# Altium schematic symbol library SCH - MCU - STM32 - ST MICROELECTRONICS STM32H7B0IBTX LQFP176.SchLib: 1 symbol
Pins are listed as number, name and electrical type; pins without a type are passive.

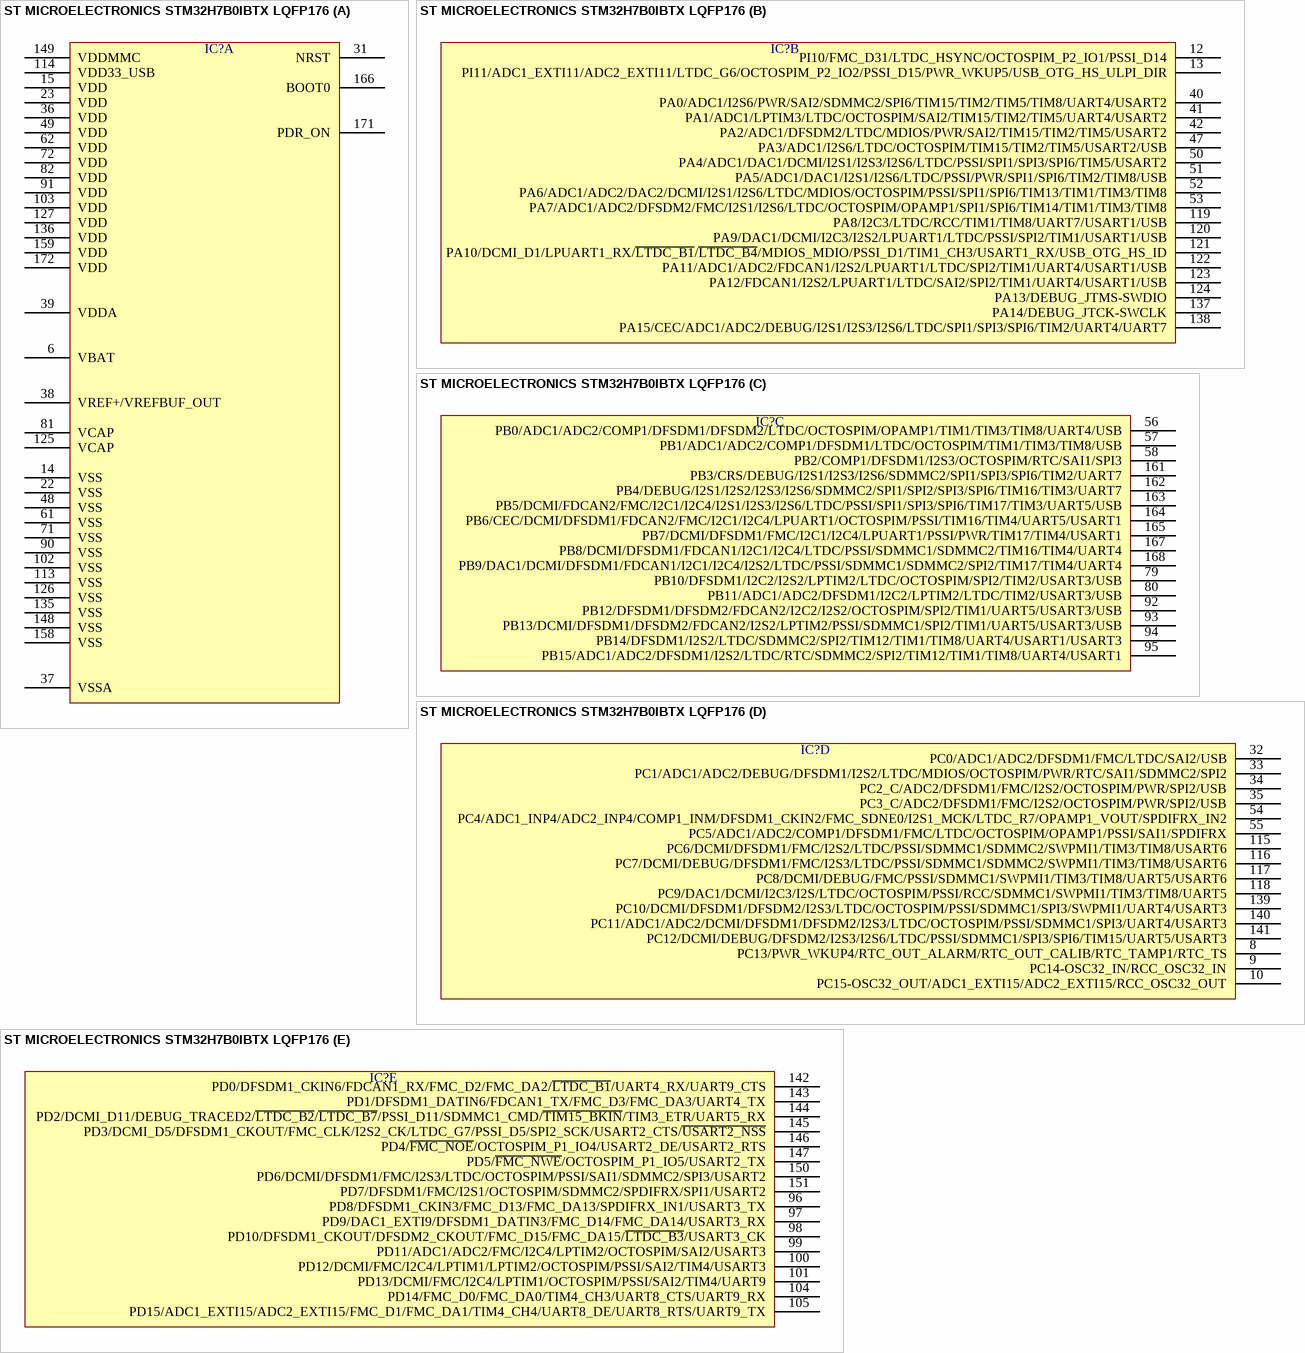
[diagram p0: symbol ST MICROELECTRONICS STM32H7B0IBTX LQFP176]

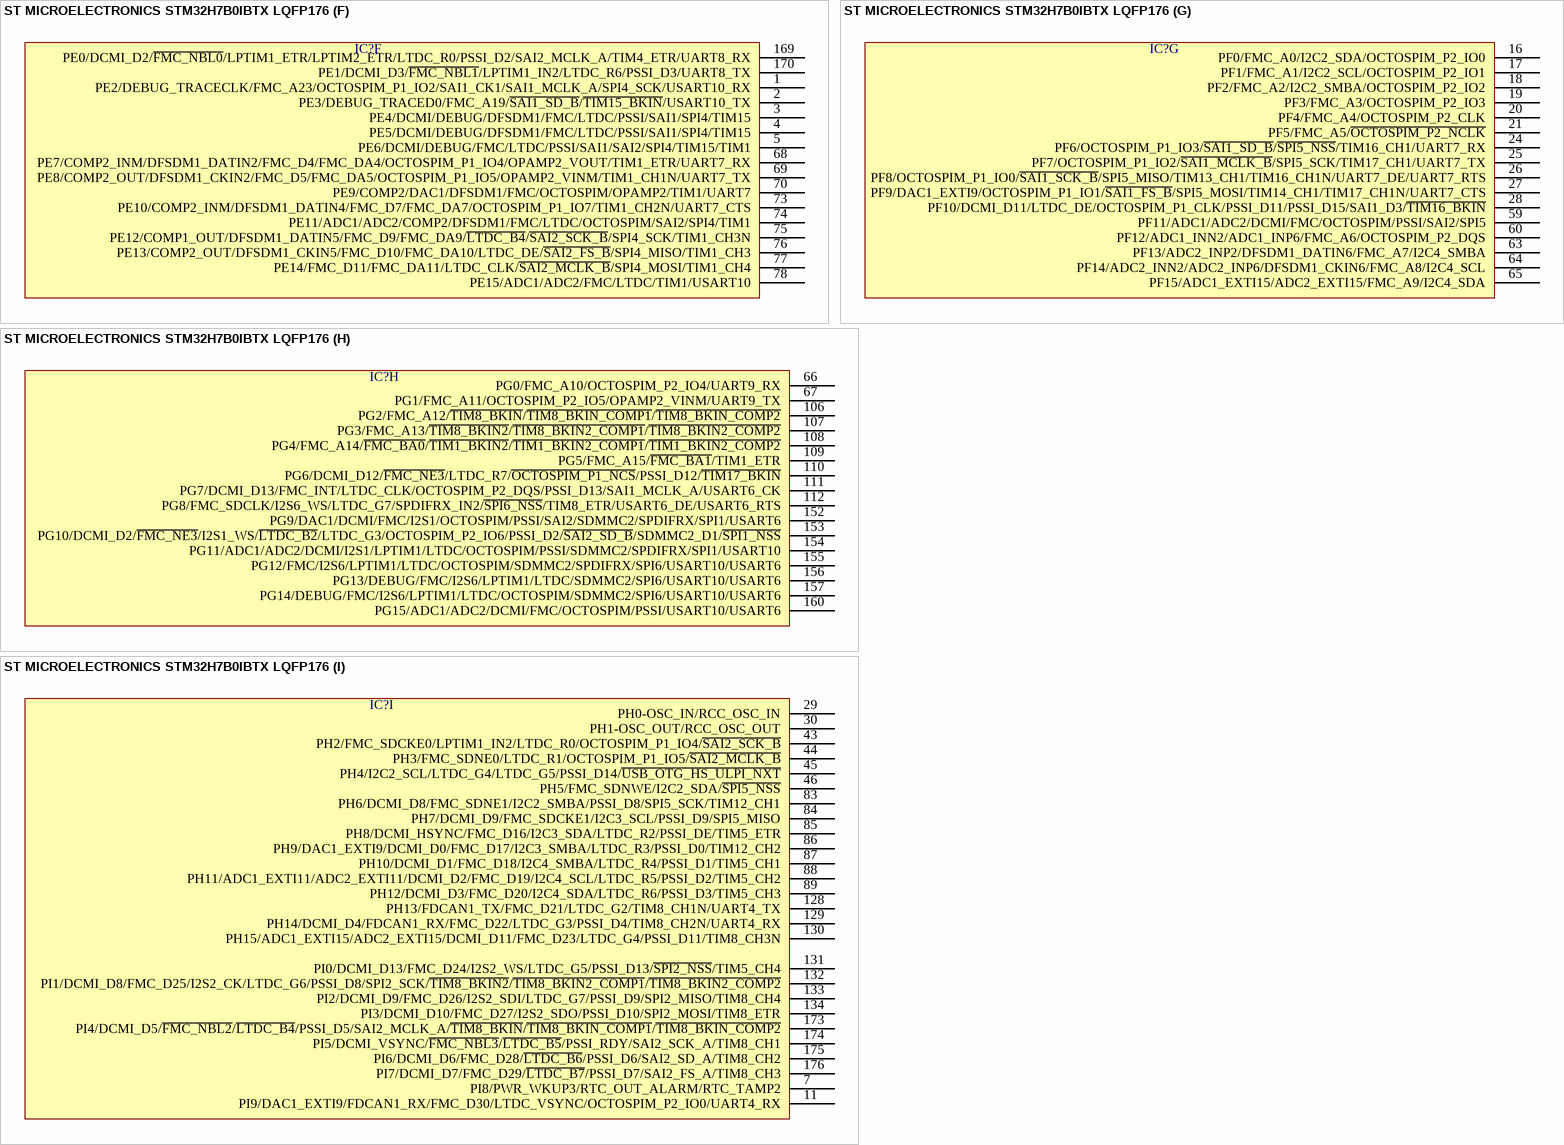
[diagram p1: symbol ST MICROELECTRONICS STM32H7B0IBTX LQFP176]

## ST MICROELECTRONICS STM32H7B0IBTX LQFP176
designator IC?  (value not drawn)
part A pins: 6 VBAT, 14 VSS, 15 VDD, 22 VSS, 23 VDD, 31 NRST, 36 VDD, 37 VSSA, 38 VREF+/VREFBUF_OUT, 39 VDDA, 48 VSS, 49 VDD, 61 VSS, 62 VDD, 71 VSS, 72 VDD, 81 VCAP, 82 VDD, 90 VSS, 91 VDD, 102 VSS, 103 VDD, 113 VSS, 114 VDD33_USB, 125 VCAP, 126 VSS, 127 VDD, 135 VSS, 136 VDD, 148 VSS, 149 VDDMMC, 158 VSS, 159 VDD, 166 BOOT0, 171 PDR_ON, 172 VDD
part B pins: 12 PI10/FMC_D31/LTDC_HSYNC/OCTOSPIM_P2_IO1/PSSI_D14, 13 PI11/ADC1_EXTI11/ADC2_EXTI11/LTDC_G6/OCTOSPIM_P2_IO2/PSSI_D15/PWR_WKUP5/USB_OTG_HS_ULPI_DIR, 40 PA0/ADC1/I2S6/PWR/SAI2/SDMMC2/SPI6/TIM15/TIM2/TIM5/TIM8/UART4/USART2, 41 PA1/ADC1/LPTIM3/LTDC/OCTOSPIM/SAI2/TIM15/TIM2/TIM5/UART4/USART2, 42 PA2/ADC1/DFSDM2/LTDC/MDIOS/PWR/SAI2/TIM15/TIM2/TIM5/USART2, 47 PA3/ADC1/I2S6/LTDC/OCTOSPIM/TIM15/TIM2/TIM5/USART2/USB, 50 PA4/ADC1/DAC1/DCMI/I2S1/I2S3/I2S6/LTDC/PSSI/SPI1/SPI3/SPI6/TIM5/USART2, 51 PA5/ADC1/DAC1/I2S1/I2S6/LTDC/PSSI/PWR/SPI1/SPI6/TIM2/TIM8/USB, 52 PA6/ADC1/ADC2/DAC2/DCMI/I2S1/I2S6/LTDC/MDIOS/OCTOSPIM/PSSI/SPI1/SPI6/TIM13/TIM1/TIM3/TIM8, 53 PA7/ADC1/ADC2/DFSDM2/FMC/I2S1/I2S6/LTDC/OCTOSPIM/OPAMP1/SPI1/SPI6/TIM14/TIM1/TIM3/TIM8, 119 PA8/I2C3/LTDC/RCC/TIM1/TIM8/UART7/USART1/USB, 120 PA9/DAC1/DCMI/I2C3/I2S2/LPUART1/LTDC/PSSI/SPI2/TIM1/USART1/USB, 121 PA10/DCMI_D1/LPUART1_RX/~{LTDC_B1}/~{LTDC_B4}/MDIOS_MDIO/PSSI_D1/TIM1_CH3/USART1_RX/USB_OTG_HS_ID, 122 PA11/ADC1/ADC2/FDCAN1/I2S2/LPUART1/LTDC/SPI2/TIM1/UART4/USART1/USB, 123 PA12/FDCAN1/I2S2/LPUART1/LTDC/SAI2/SPI2/TIM1/UART4/USART1/USB, 124 PA13/DEBUG_JTMS-SWDIO, 137 PA14/DEBUG_JTCK-SWCLK, 138 PA15/CEC/ADC1/ADC2/DEBUG/I2S1/I2S3/I2S6/LTDC/SPI1/SPI3/SPI6/TIM2/UART4/UART7
part C pins: 56 PB0/ADC1/ADC2/COMP1/DFSDM1/DFSDM2/LTDC/OCTOSPIM/OPAMP1/TIM1/TIM3/TIM8/UART4/USB, 57 PB1/ADC1/ADC2/COMP1/DFSDM1/LTDC/OCTOSPIM/TIM1/TIM3/TIM8/USB, 58 PB2/COMP1/DFSDM1/I2S3/OCTOSPIM/RTC/SAI1/SPI3, 79 PB10/DFSDM1/I2C2/I2S2/LPTIM2/LTDC/OCTOSPIM/SPI2/TIM2/USART3/USB, 80 PB11/ADC1/ADC2/DFSDM1/I2C2/LPTIM2/LTDC/TIM2/USART3/USB, 92 PB12/DFSDM1/DFSDM2/FDCAN2/I2C2/I2S2/OCTOSPIM/SPI2/TIM1/UART5/USART3/USB, 93 PB13/DCMI/DFSDM1/DFSDM2/FDCAN2/I2S2/LPTIM2/PSSI/SDMMC1/SPI2/TIM1/UART5/USART3/USB, 94 PB14/DFSDM1/I2S2/LTDC/SDMMC2/SPI2/TIM12/TIM1/TIM8/UART4/USART1/USART3, 95 PB15/ADC1/ADC2/DFSDM1/I2S2/LTDC/RTC/SDMMC2/SPI2/TIM12/TIM1/TIM8/UART4/USART1, 161 PB3/CRS/DEBUG/I2S1/I2S3/I2S6/SDMMC2/SPI1/SPI3/SPI6/TIM2/UART7, 162 PB4/DEBUG/I2S1/I2S2/I2S3/I2S6/SDMMC2/SPI1/SPI2/SPI3/SPI6/TIM16/TIM3/UART7, 163 PB5/DCMI/FDCAN2/FMC/I2C1/I2C4/I2S1/I2S3/I2S6/LTDC/PSSI/SPI1/SPI3/SPI6/TIM17/TIM3/UART5/USB, 164 PB6/CEC/DCMI/DFSDM1/FDCAN2/FMC/I2C1/I2C4/LPUART1/OCTOSPIM/PSSI/TIM16/TIM4/UART5/USART1, 165 PB7/DCMI/DFSDM1/FMC/I2C1/I2C4/LPUART1/PSSI/PWR/TIM17/TIM4/USART1, 167 PB8/DCMI/DFSDM1/FDCAN1/I2C1/I2C4/LTDC/PSSI/SDMMC1/SDMMC2/TIM16/TIM4/UART4, 168 PB9/DAC1/DCMI/DFSDM1/FDCAN1/I2C1/I2C4/I2S2/LTDC/PSSI/SDMMC1/SDMMC2/SPI2/TIM17/TIM4/UART4
part D pins: 8 PC13/PWR_WKUP4/RTC_OUT_ALARM/RTC_OUT_CALIB/RTC_TAMP1/RTC_TS, 9 PC14-OSC32_IN/RCC_OSC32_IN, 10 PC15-OSC32_OUT/ADC1_EXTI15/ADC2_EXTI15/RCC_OSC32_OUT, 32 PC0/ADC1/ADC2/DFSDM1/FMC/LTDC/SAI2/USB, 33 PC1/ADC1/ADC2/DEBUG/DFSDM1/I2S2/LTDC/MDIOS/OCTOSPIM/PWR/RTC/SAI1/SDMMC2/SPI2, 34 PC2_C/ADC2/DFSDM1/FMC/I2S2/OCTOSPIM/PWR/SPI2/USB, 35 PC3_C/ADC2/DFSDM1/FMC/I2S2/OCTOSPIM/PWR/SPI2/USB, 54 PC4/ADC1_INP4/ADC2_INP4/COMP1_INM/DFSDM1_CKIN2/FMC_SDNE0/I2S1_MCK/LTDC_R7/OPAMP1_VOUT/SPDIFRX_IN2, 55 PC5/ADC1/ADC2/COMP1/DFSDM1/FMC/LTDC/OCTOSPIM/OPAMP1/PSSI/SAI1/SPDIFRX, 115 PC6/DCMI/DFSDM1/FMC/I2S2/LTDC/PSSI/SDMMC1/SDMMC2/SWPMI1/TIM3/TIM8/USART6, 116 PC7/DCMI/DEBUG/DFSDM1/FMC/I2S3/LTDC/PSSI/SDMMC1/SDMMC2/SWPMI1/TIM3/TIM8/USART6, 117 PC8/DCMI/DEBUG/FMC/PSSI/SDMMC1/SWPMI1/TIM3/TIM8/UART5/USART6, 118 PC9/DAC1/DCMI/I2C3/I2S/LTDC/OCTOSPIM/PSSI/RCC/SDMMC1/SWPMI1/TIM3/TIM8/UART5, 139 PC10/DCMI/DFSDM1/DFSDM2/I2S3/LTDC/OCTOSPIM/PSSI/SDMMC1/SPI3/SWPMI1/UART4/USART3, 140 PC11/ADC1/ADC2/DCMI/DFSDM1/DFSDM2/I2S3/LTDC/OCTOSPIM/PSSI/SDMMC1/SPI3/UART4/USART3, 141 PC12/DCMI/DEBUG/DFSDM2/I2S3/I2S6/LTDC/PSSI/SDMMC1/SPI3/SPI6/TIM15/UART5/USART3
part E pins: 96 PD8/DFSDM1_CKIN3/FMC_D13/FMC_DA13/SPDIFRX_IN1/USART3_TX, 97 PD9/DAC1_EXTI9/DFSDM1_DATIN3/FMC_D14/FMC_DA14/USART3_RX, 98 PD10/DFSDM1_CKOUT/DFSDM2_CKOUT/FMC_D15/FMC_DA15/~{LTDC_B3}/USART3_CK, 99 PD11/ADC1/ADC2/FMC/I2C4/LPTIM2/OCTOSPIM/SAI2/USART3, 100 PD12/DCMI/FMC/I2C4/LPTIM1/LPTIM2/OCTOSPIM/PSSI/SAI2/TIM4/USART3, 101 PD13/DCMI/FMC/I2C4/LPTIM1/OCTOSPIM/PSSI/SAI2/TIM4/UART9, 104 PD14/FMC_D0/FMC_DA0/TIM4_CH3/UART8_CTS/UART9_RX, 105 PD15/ADC1_EXTI15/ADC2_EXTI15/FMC_D1/FMC_DA1/TIM4_CH4/UART8_DE/UART8_RTS/UART9_TX, 142 PD0/DFSDM1_CKIN6/FDCAN1_RX/FMC_D2/FMC_DA2/~{LTDC_B1}/UART4_RX/UART9_CTS, 143 PD1/DFSDM1_DATIN6/FDCAN1_TX/FMC_D3/FMC_DA3/UART4_TX, 144 PD2/DCMI_D11/DEBUG_TRACED2/~{LTDC_B2}/~{LTDC_B7}/PSSI_D11/SDMMC1_CMD/~{TIM15_BKIN}/TIM3_ETR/UART5_RX, 145 PD3/DCMI_D5/DFSDM1_CKOUT/FMC_CLK/I2S2_CK/LTDC_G7/PSSI_D5/SPI2_SCK/USART2_CTS/~{USART2_NSS}, 146 PD4/~{FMC_NOE}/OCTOSPIM_P1_IO4/USART2_DE/USART2_RTS, 147 PD5/~{FMC_NWE}/OCTOSPIM_P1_IO5/USART2_TX, 150 PD6/DCMI/DFSDM1/FMC/I2S3/LTDC/OCTOSPIM/PSSI/SAI1/SDMMC2/SPI3/USART2, 151 PD7/DFSDM1/FMC/I2S1/OCTOSPIM/SDMMC2/SPDIFRX/SPI1/USART2
part F pins: 1 PE2/DEBUG_TRACECLK/FMC_A23/OCTOSPIM_P1_IO2/SAI1_CK1/SAI1_MCLK_A/SPI4_SCK/USART10_RX, 2 PE3/DEBUG_TRACED0/FMC_A19/~{SAI1_SD_B}/~{TIM15_BKIN}/USART10_TX, 3 PE4/DCMI/DEBUG/DFSDM1/FMC/LTDC/PSSI/SAI1/SPI4/TIM15, 4 PE5/DCMI/DEBUG/DFSDM1/FMC/LTDC/PSSI/SAI1/SPI4/TIM15, 5 PE6/DCMI/DEBUG/FMC/LTDC/PSSI/SAI1/SAI2/SPI4/TIM15/TIM1, 68 PE7/COMP2_INM/DFSDM1_DATIN2/FMC_D4/FMC_DA4/OCTOSPIM_P1_IO4/OPAMP2_VOUT/TIM1_ETR/UART7_RX, 69 PE8/COMP2_OUT/DFSDM1_CKIN2/FMC_D5/FMC_DA5/OCTOSPIM_P1_IO5/OPAMP2_VINM/TIM1_CH1N/UART7_TX, 70 PE9/COMP2/DAC1/DFSDM1/FMC/OCTOSPIM/OPAMP2/TIM1/UART7, 73 PE10/COMP2_INM/DFSDM1_DATIN4/FMC_D7/FMC_DA7/OCTOSPIM_P1_IO7/TIM1_CH2N/UART7_CTS, 74 PE11/ADC1/ADC2/COMP2/DFSDM1/FMC/LTDC/OCTOSPIM/SAI2/SPI4/TIM1, 75 PE12/COMP1_OUT/DFSDM1_DATIN5/FMC_D9/FMC_DA9/~{LTDC_B4}/~{SAI2_SCK_B}/SPI4_SCK/TIM1_CH3N, 76 PE13/COMP2_OUT/DFSDM1_CKIN5/FMC_D10/FMC_DA10/LTDC_DE/~{SAI2_FS_B}/SPI4_MISO/TIM1_CH3, 77 PE14/FMC_D11/FMC_DA11/LTDC_CLK/~{SAI2_MCLK_B}/SPI4_MOSI/TIM1_CH4, 78 PE15/ADC1/ADC2/FMC/LTDC/TIM1/USART10, 169 PE0/DCMI_D2/~{FMC_NBL0}/LPTIM1_ETR/LPTIM2_ETR/LTDC_R0/PSSI_D2/SAI2_MCLK_A/TIM4_ETR/UART8_RX, 170 PE1/DCMI_D3/~{FMC_NBL1}/LPTIM1_IN2/LTDC_R6/PSSI_D3/UART8_TX
part G pins: 16 PF0/FMC_A0/I2C2_SDA/OCTOSPIM_P2_IO0, 17 PF1/FMC_A1/I2C2_SCL/OCTOSPIM_P2_IO1, 18 PF2/FMC_A2/I2C2_SMBA/OCTOSPIM_P2_IO2, 19 PF3/FMC_A3/OCTOSPIM_P2_IO3, 20 PF4/FMC_A4/OCTOSPIM_P2_CLK, 21 PF5/FMC_A5/~{OCTOSPIM_P2_NCLK}, 24 PF6/OCTOSPIM_P1_IO3/~{SAI1_SD_B}/~{SPI5_NSS}/TIM16_CH1/UART7_RX, 25 PF7/OCTOSPIM_P1_IO2/~{SAI1_MCLK_B}/SPI5_SCK/TIM17_CH1/UART7_TX, 26 PF8/OCTOSPIM_P1_IO0/~{SAI1_SCK_B}/SPI5_MISO/TIM13_CH1/TIM16_CH1N/UART7_DE/UART7_RTS, 27 PF9/DAC1_EXTI9/OCTOSPIM_P1_IO1/~{SAI1_FS_B}/SPI5_MOSI/TIM14_CH1/TIM17_CH1N/UART7_CTS, 28 PF10/DCMI_D11/LTDC_DE/OCTOSPIM_P1_CLK/PSSI_D11/PSSI_D15/SAI1_D3/~{TIM16_BKIN}, 59 PF11/ADC1/ADC2/DCMI/FMC/OCTOSPIM/PSSI/SAI2/SPI5, 60 PF12/ADC1_INN2/ADC1_INP6/FMC_A6/OCTOSPIM_P2_DQS, 63 PF13/ADC2_INP2/DFSDM1_DATIN6/FMC_A7/I2C4_SMBA, 64 PF14/ADC2_INN2/ADC2_INP6/DFSDM1_CKIN6/FMC_A8/I2C4_SCL, 65 PF15/ADC1_EXTI15/ADC2_EXTI15/FMC_A9/I2C4_SDA
part H pins: 66 PG0/FMC_A10/OCTOSPIM_P2_IO4/UART9_RX, 67 PG1/FMC_A11/OCTOSPIM_P2_IO5/OPAMP2_VINM/UART9_TX, 106 PG2/FMC_A12/~{TIM8_BKIN}/~{TIM8_BKIN_COMP1}/~{TIM8_BKIN_COMP2}, 107 PG3/FMC_A13/~{TIM8_BKIN2}/~{TIM8_BKIN2_COMP1}/~{TIM8_BKIN2_COMP2}, 108 PG4/FMC_A14/~{FMC_BA0}/~{TIM1_BKIN2}/~{TIM1_BKIN2_COMP1}/~{TIM1_BKIN2_COMP2}, 109 PG5/FMC_A15/~{FMC_BA1}/TIM1_ETR, 110 PG6/DCMI_D12/~{FMC_NE3}/LTDC_R7/~{OCTOSPIM_P1_NCS}/PSSI_D12/~{TIM17_BKIN}, 111 PG7/DCMI_D13/FMC_INT/LTDC_CLK/OCTOSPIM_P2_DQS/PSSI_D13/SAI1_MCLK_A/USART6_CK, 112 PG8/FMC_SDCLK/I2S6_WS/LTDC_G7/SPDIFRX_IN2/~{SPI6_NSS}/TIM8_ETR/USART6_DE/USART6_RTS, 152 PG9/DAC1/DCMI/FMC/I2S1/OCTOSPIM/PSSI/SAI2/SDMMC2/SPDIFRX/SPI1/USART6, 153 PG10/DCMI_D2/~{FMC_NE3}/I2S1_WS/~{LTDC_B2}/LTDC_G3/OCTOSPIM_P2_IO6/PSSI_D2/~{SAI2_SD_B}/SDMMC2_D1/~{SPI1_NSS}, 154 PG11/ADC1/ADC2/DCMI/I2S1/LPTIM1/LTDC/OCTOSPIM/PSSI/SDMMC2/SPDIFRX/SPI1/USART10, 155 PG12/FMC/I2S6/LPTIM1/LTDC/OCTOSPIM/SDMMC2/SPDIFRX/SPI6/USART10/USART6, 156 PG13/DEBUG/FMC/I2S6/LPTIM1/LTDC/SDMMC2/SPI6/USART10/USART6, 157 PG14/DEBUG/FMC/I2S6/LPTIM1/LTDC/OCTOSPIM/SDMMC2/SPI6/USART10/USART6, 160 PG15/ADC1/ADC2/DCMI/FMC/OCTOSPIM/PSSI/USART10/USART6
part I pins: 7 PI8/PWR_WKUP3/RTC_OUT_ALARM/RTC_TAMP2, 11 PI9/DAC1_EXTI9/FDCAN1_RX/FMC_D30/LTDC_VSYNC/OCTOSPIM_P2_IO0/UART4_RX, 29 PH0-OSC_IN/RCC_OSC_IN, 30 PH1-OSC_OUT/RCC_OSC_OUT, 43 PH2/FMC_SDCKE0/LPTIM1_IN2/LTDC_R0/OCTOSPIM_P1_IO4/~{SAI2_SCK_B}, 44 PH3/FMC_SDNE0/LTDC_R1/OCTOSPIM_P1_IO5/~{SAI2_MCLK_B}, 45 PH4/I2C2_SCL/LTDC_G4/LTDC_G5/PSSI_D14/~{USB_OTG_HS_ULPI_NXT}, 46 PH5/FMC_SDNWE/I2C2_SDA/~{SPI5_NSS}, 83 PH6/DCMI_D8/FMC_SDNE1/I2C2_SMBA/PSSI_D8/SPI5_SCK/TIM12_CH1, 84 PH7/DCMI_D9/FMC_SDCKE1/I2C3_SCL/PSSI_D9/SPI5_MISO, 85 PH8/DCMI_HSYNC/FMC_D16/I2C3_SDA/LTDC_R2/PSSI_DE/TIM5_ETR, 86 PH9/DAC1_EXTI9/DCMI_D0/FMC_D17/I2C3_SMBA/LTDC_R3/PSSI_D0/TIM12_CH2, 87 PH10/DCMI_D1/FMC_D18/I2C4_SMBA/LTDC_R4/PSSI_D1/TIM5_CH1, 88 PH11/ADC1_EXTI11/ADC2_EXTI11/DCMI_D2/FMC_D19/I2C4_SCL/LTDC_R5/PSSI_D2/TIM5_CH2, 89 PH12/DCMI_D3/FMC_D20/I2C4_SDA/LTDC_R6/PSSI_D3/TIM5_CH3, 128 PH13/FDCAN1_TX/FMC_D21/LTDC_G2/TIM8_CH1N/UART4_TX, 129 PH14/DCMI_D4/FDCAN1_RX/FMC_D22/LTDC_G3/PSSI_D4/TIM8_CH2N/UART4_RX, 130 PH15/ADC1_EXTI15/ADC2_EXTI15/DCMI_D11/FMC_D23/LTDC_G4/PSSI_D11/TIM8_CH3N, 131 PI0/DCMI_D13/FMC_D24/I2S2_WS/LTDC_G5/PSSI_D13/~{SPI2_NSS}/TIM5_CH4, 132 PI1/DCMI_D8/FMC_D25/I2S2_CK/LTDC_G6/PSSI_D8/SPI2_SCK/~{TIM8_BKIN2}/~{TIM8_BKIN2_COMP1}/~{TIM8_BKIN2_COMP2}, 133 PI2/DCMI_D9/FMC_D26/I2S2_SDI/LTDC_G7/PSSI_D9/SPI2_MISO/TIM8_CH4, 134 PI3/DCMI_D10/FMC_D27/I2S2_SDO/PSSI_D10/SPI2_MOSI/TIM8_ETR, 173 PI4/DCMI_D5/~{FMC_NBL2}/~{LTDC_B4}/PSSI_D5/SAI2_MCLK_A/~{TIM8_BKIN}/~{TIM8_BKIN_COMP1}/~{TIM8_BKIN_COMP2}, 174 PI5/DCMI_VSYNC/~{FMC_NBL3}/~{LTDC_B5}/PSSI_RDY/SAI2_SCK_A/TIM8_CH1, 175 PI6/DCMI_D6/FMC_D28/~{LTDC_B6}/PSSI_D6/SAI2_SD_A/TIM8_CH2, 176 PI7/DCMI_D7/FMC_D29/~{LTDC_B7}/PSSI_D7/SAI2_FS_A/TIM8_CH3